# Altium footprint library 4527.PcbLib: 1 footprints
Each footprint in its own frame and in the unit in brackets; x right, y up, seen from the top. Pads: shape width x height; smd on the part's side, far side on the other; paste and mask are expansions set on the pad; w line width, h text height; cw(c..) or ccw(c..) is an arc to the next point about the centre after c.
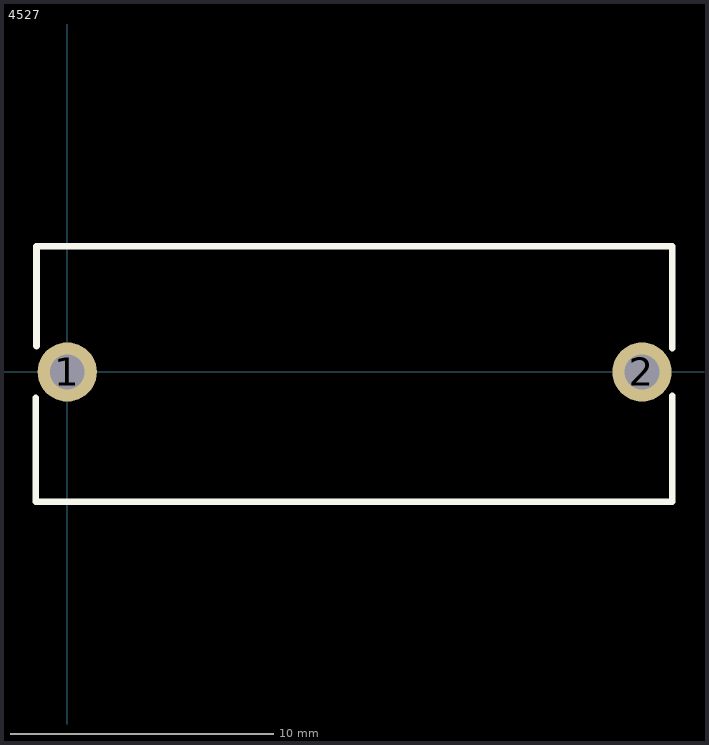
[diagram p0: the footprint, top view; thin cyan lines are the x and y axes]

## 4527 [mm] "5x20mm fuse holder"
pads (2):
  round 2.25 hole 1.32: 1(0,0) 2(21.84,0)
Top Overlay:
  lines w0.254: -1.194,-0.991 -1.194,-4.928 22.987,-4.928 22.987,-0.914 ; -1.168,0.991 -1.168,4.775 22.987,4.775 22.987,0.914
3D body: height 10.8, standoff -4.49, extent -1.176,-4.919 22.979,4.784